# Altium schematic symbol library IC_wireless.SchLib: 6 symbols
Pins are listed as number, name and electrical type; pins without a type are passive.

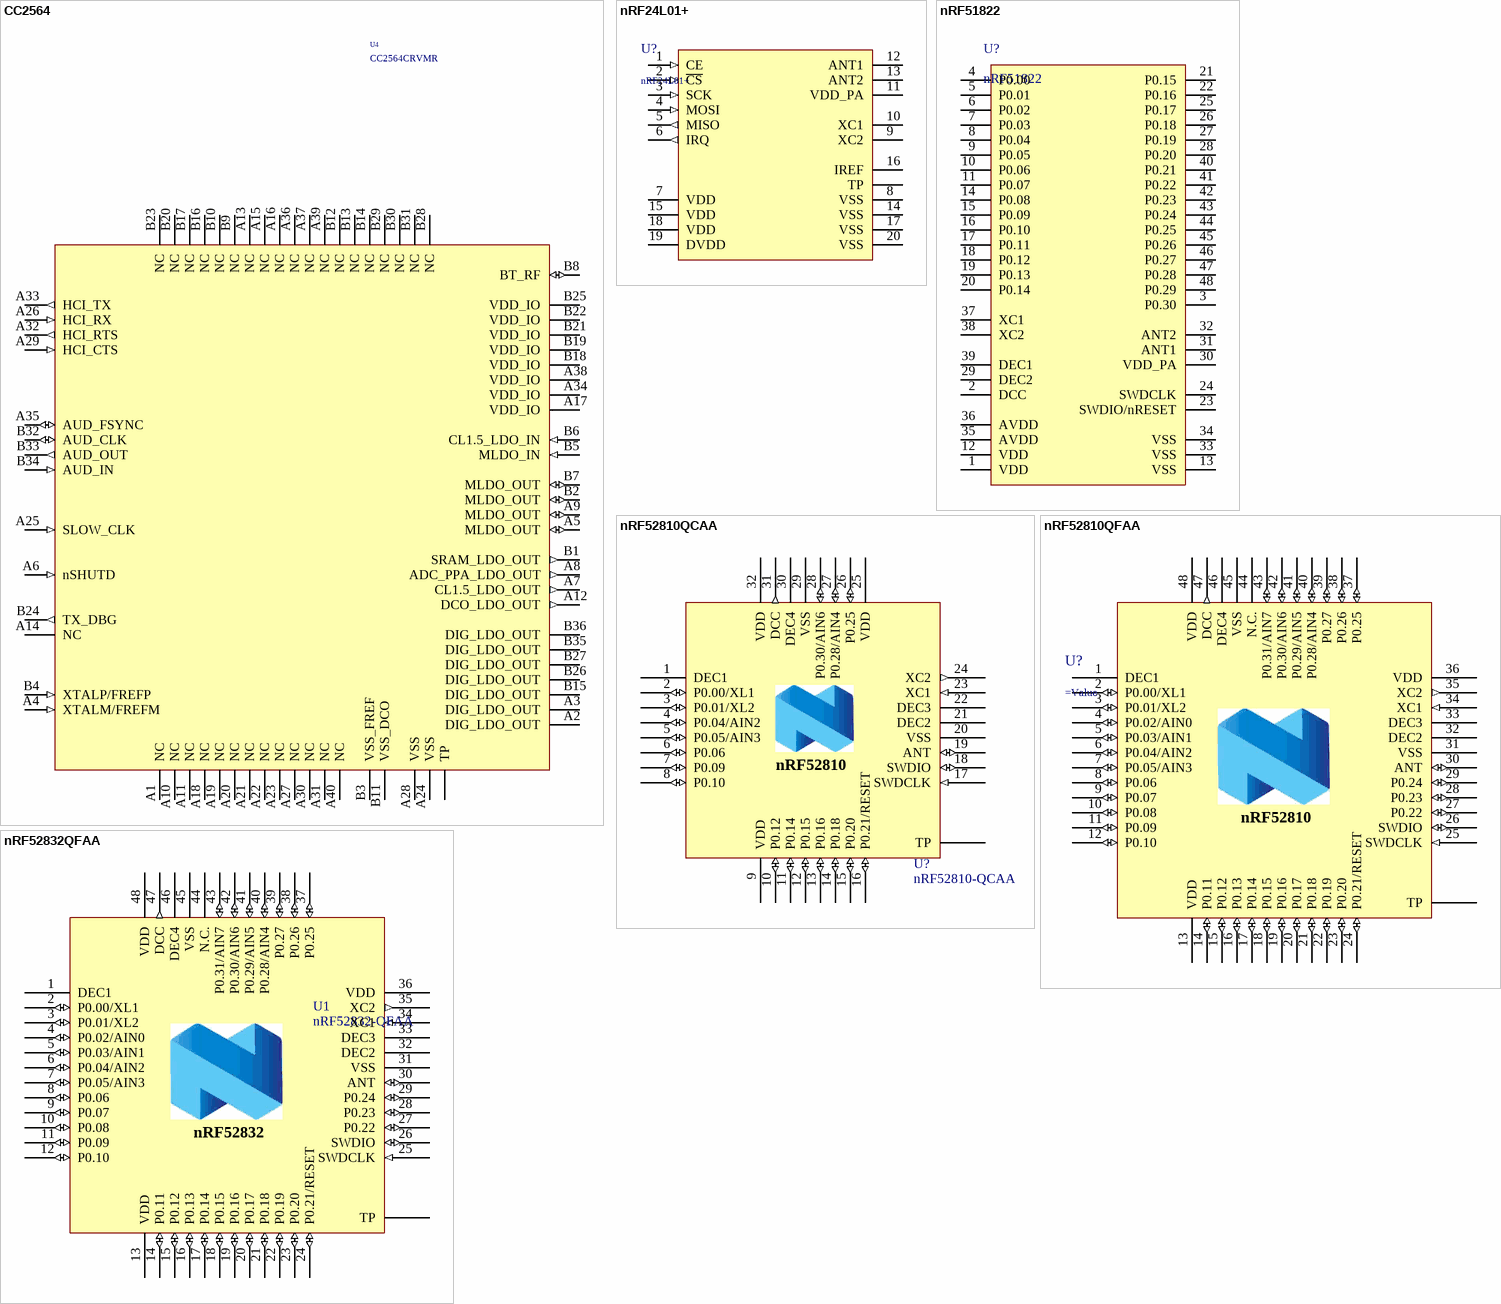
[diagram p0: symbols CC2564 to nRF52832QFAA]

## CC2564
designator U4, comment CC2564CRVMR
Dual-Mode Bluetooth® Controller; Manufacturer: TI; Name: CC2564CRVMR; BOMString: CC2564CRVMR
footprint QFN-76-0.6-8x8_2rows_TP (Double Row QFN, 76-Leads, Body 8,00x8,00mm, Pitch 0,60mm, IPC Medium Density)
pins: A1 NC, A2 DIG_LDO_OUT, A3 DIG_LDO_OUT, A4 XTALM/FREFM (in), A5 MLDO_OUT (io), A6 nSHUTD (in), A7 CL1.5_LDO_OUT (out), A8 ADC_PPA_LDO_OUT (out), A9 MLDO_OUT (io), A10 NC, A11 NC, A12 DCO_LDO_OUT (out), A13 NC, A14 NC, A15 NC, A16 NC, A17 VDD_IO (power), A18 NC, A19 NC, A20 NC, A21 NC, A22 NC, A23 NC, A24 VSS, A25 SLOW_CLK (in), A26 HCI_RX (in), A27 NC, A28 VSS, A29 HCI_CTS (in), A30 NC, A31 NC, A32 HCI_RTS (out), A33 HCI_TX (out), A34 VDD_IO (power), A35 AUD_FSYNC (io), A36 NC, A37 NC, A38 VDD_IO (power), A39 NC, A40 NC, B1 SRAM_LDO_OUT (out), B2 MLDO_OUT (io), B3 VSS_FREF, B4 XTALP/FREFP (in), B5 MLDO_IN (in), B6 CL1.5_LDO_IN (in), B7 MLDO_OUT (io), B8 BT_RF (io), B9 NC, B10 NC, B11 VSS_DCO, B12 NC, B13 NC, B14 NC, B15 DIG_LDO_OUT, B16 NC, B17 NC, B18 VDD_IO (power), B19 VDD_IO (power), B20 NC, B21 VDD_IO (power), B22 VDD_IO (power), B23 NC, B24 TX_DBG (out), B25 VDD_IO (power), B26 DIG_LDO_OUT, B27 DIG_LDO_OUT, B28 NC, B29 NC, B30 NC, B31 NC, B32 AUD_CLK (io), B33 AUD_OUT (out), B34 AUD_IN (in), B35 DIG_LDO_OUT, B36 DIG_LDO_OUT, TP

## nRF24L01+
designator U?
Single Chip 2.4GHz Transceiver
footprint QFN-20-0.5-4x4_TP (QFN, 20-Leads, Body 4,00x4,00mm, Pitch 0,50mm, Thermal Pad 2,60x2,60mm, IPC Medium Density)
pins: 0 TP (power), 1 CE (in), 2 ~{CS} (in), 3 SCK (in), 4 MOSI (in), 5 MISO (out), 6 IRQ (out), 7 VDD (power), 8 VSS (power), 9 XC2, 10 XC1, 11 VDD_PA (power), 12 ANT1 (oc), 13 ANT2 (oc), 14 VSS (power), 15 VDD (power), 16 IREF, 17 VSS (power), 18 VDD (power), 19 DVDD (power), 20 VSS (power)

## nRF51822
designator U?
Supplier: http://www.compel.ru/infosheet/NORDIC/NRF51822-QFAA-R; Datasheet: https://www.nordicsemi.com/eng/nordic/download_resource/20339/13/99420539; Price(1): 446.51; Price(1000): 293.93
footprint QFN48-0.4-6x6_TP (QFN, 48-Leads, Body 6,00x6,00mm, Pitch 0,40mm, Thermal Pad 4,60x4,60mm, IPC High Density)
pins: 1 VDD, 2 DCC, 3 P0.30, 4 P0.00, 5 P0.01, 6 P0.02, 7 P0.03, 8 P0.04, 9 P0.05, 10 P0.06, 11 P0.07, 12 VDD, 13 VSS, 14 P0.08, 15 P0.09, 16 P0.10, 17 P0.11, 18 P0.12, 19 P0.13, 20 P0.14, 21 P0.15, 22 P0.16, 23 SWDIO/nRESET, 24 SWDCLK, 25 P0.17, 26 P0.18, 27 P0.19, 28 P0.20, 29 DEC2, 30 VDD_PA, 31 ANT1, 32 ANT2, 33 VSS, 34 VSS, 35 AVDD, 36 AVDD, 37 XC1, 38 XC2, 39 DEC1, 40 P0.21, 41 P0.22, 42 P0.23, 43 P0.24, 44 P0.25, 45 P0.26, 46 P0.27, 47 P0.28, 48 P0.29

## nRF52810QCAA
designator U?, comment nRF52810-QCAA
Multi-protocol Bluetooth Low Energy, ANT and 2.4GHz proprietary system-on-chip; Manufacturer: Nordic Semiconductor; Note: nRF52810 - QFN32 5x5 0.5mm pitch; Part Number: nRF52810-QCAA; Manufacturer Part Number: nRF52810-QCAA; LatestRevisionDate: 2017-08-21; Pin Count: 32; Publisher: Nordic Semiconductor; Published: 2017-08-21; Value: nRF52810-QCAA; Footprint Doc: QFN-32
footprint QFN-32-0.5-5x5_TP
pins: 0 TP (power), 1 DEC1 (power), 2 P0.00/XL1 (io), 3 P0.01/XL2 (io), 4 P0.04/AIN2 (io), 5 P0.05/AIN3 (io), 6 P0.06 (io), 7 P0.09 (io), 8 P0.10 (io), 9 VDD (power), 10 P0.12 (io), 11 P0.14 (io), 12 P0.15 (io), 13 P0.16 (io), 14 P0.18 (io), 15 P0.20 (io), 16 P0.21/RESET (io), 17 SWDCLK (in), 18 SWDIO (io), 19 ANT (io), 20 VSS (power), 21 DEC2 (power), 22 DEC3 (power), 23 XC1 (in), 24 XC2 (out), 25 VDD (power), 26 P0.25 (io), 27 P0.28/AIN4 (io), 28 P0.30/AIN6 (io), 29 VSS (power), 30 DEC4 (power), 31 DCC (out), 32 VDD (power)
text: nRF52810

## nRF52810QFAA
designator U?
HiPerf entry-level Bluetooth 5/ANT/2.4GHz SoC; Sensivity[dbm]: -96; CPU: ARM Cortex-M4 32-bit; fCPU[MHz]: 64; FlashSize[kB]: 192; RAMSize[kB]: 24; IOs: 32; SupplyMin[V]: 1.7; SupplyMax[V]: 3.6; ConsumptionTx[mA]: 4.6; IsBalunRequired: 0; ConsumptionOff[uA]: 0.3; ConsumptionOffRAM[uA]: 0.5; ConsumptionSleep[uA]: 1.5; Datarate[kbps]: 2000; OutPowerMin[dBm]: -20; OutPowerMax[dBm]: 4; DebugIF: SWD; IOCurrentMax[mA]: 15; BOMString: nRF52810QFAA; Value: nRF52810QFAA; HelpURL: http://infocenter.nordicsemi.com/pdf/nRF52810_OPS_v0.5.5.pdf; ConsumptionRx[mA]: 4.6; Name: nRF52810QFAA
footprint QFN-48-0.4-6x6_TP
footprint QFN-48-0.4-6x6
footprint QFN-48-0.4-6x6_TP_novia
pins: 1 DEC1 (power), 2 P0.00/XL1 (io), 3 P0.01/XL2 (io), 4 P0.02/AIN0 (io), 5 P0.03/AIN1 (io), 6 P0.04/AIN2 (io), 7 P0.05/AIN3 (io), 8 P0.06 (io), 9 P0.07 (io), 10 P0.08 (io), 11 P0.09 (io), 12 P0.10 (io), 13 VDD (power), 14 P0.11 (io), 15 P0.12 (io), 16 P0.13 (io), 17 P0.14 (io), 18 P0.15 (io), 19 P0.16 (io), 20 P0.17 (io), 21 P0.18 (io), 22 P0.19 (io), 23 P0.20 (io), 24 P0.21/RESET (io), 25 SWDCLK (in), 26 SWDIO (io), 27 P0.22 (io), 28 P0.23 (io), 29 P0.24 (io), 30 ANT (io), 31 VSS (power), 32 DEC2 (power), 33 DEC3 (power), 34 XC1 (in), 35 XC2 (out), 36 VDD (power), 37 P0.25 (io), 38 P0.26 (io), 39 P0.27 (io), 40 P0.28/AIN4 (io), 41 P0.29/AIN5 (io), 42 P0.30/AIN6 (io), 43 P0.31/AIN7 (io), 44 N.C. (power), 45 VSS (power), 46 DEC4 (power), 47 DCC (out), 48 VDD (power), 49 TP (power)
text: nRF52810

## nRF52832QFAA
designator U1, comment nRF52832-QFAA
Multi-protocol Bluetooth Low Energy and 2.4GHz proprietary system-on-chip; Manufacturer: Nordic Semiconductor; Artikkelnr Noca: N.A.; Part Number: nRF52832-QFAA; Manufacturer Part Number: nRF52832-QFAA; Datasheet: *; LatestRevisionDate: 2014-11-26; Pin Count: 48; Publisher: Nordic Semiconductor; Published: 2014-11-26; Value: nRF52832-QFAA; Note: *; Supplier: Nordic Semiconductor; Supplier part number: *; 2nd source Supplier: *; 2nd source part number: *; Footprint Doc: QFN-48; Artikkelnr Simpro: N.A.
footprint QFN-48-0.4-6x6_TP
footprint QFN-48-0.4-6x6_TP_5class
pins: 1 DEC1 (power), 2 P0.00/XL1 (io), 3 P0.01/XL2 (io), 4 P0.02/AIN0 (io), 5 P0.03/AIN1 (io), 6 P0.04/AIN2 (io), 7 P0.05/AIN3 (io), 8 P0.06 (io), 9 P0.07 (io), 10 P0.08 (io), 11 P0.09 (io), 12 P0.10 (io), 13 VDD (power), 14 P0.11 (io), 15 P0.12 (io), 16 P0.13 (io), 17 P0.14 (io), 18 P0.15 (io), 19 P0.16 (io), 20 P0.17 (io), 21 P0.18 (io), 22 P0.19 (io), 23 P0.20 (io), 24 P0.21/RESET (io), 25 SWDCLK (in), 26 SWDIO (io), 27 P0.22 (io), 28 P0.23 (io), 29 P0.24 (io), 30 ANT (io), 31 VSS (power), 32 DEC2 (power), 33 DEC3 (power), 34 XC1 (in), 35 XC2 (out), 36 VDD (power), 37 P0.25 (io), 38 P0.26 (io), 39 P0.27 (io), 40 P0.28/AIN4 (io), 41 P0.29/AIN5 (io), 42 P0.30/AIN6 (io), 43 P0.31/AIN7 (io), 44 N.C. (power), 45 VSS (power), 46 DEC4 (power), 47 DCC (out), 48 VDD (power), 49 GND (power) hidden to GND, 49 TP (power)
text: nRF52832